# EAGLE library part NUF6400MNTBG (library Filters)
FILTER RC(PI) 100 OHM/50PF SMD Manufacturer's datasheet <https://www.onsemi.com/pub/Collateral/NUF6400MN-D.PDF>
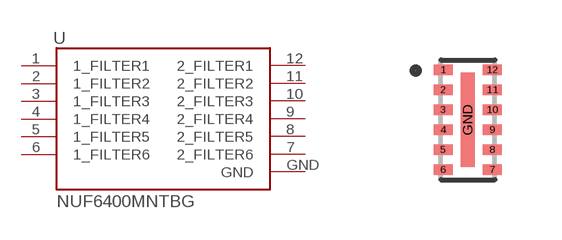
[diagram p5: symbol with the pads of DFN-12; footprint DFN-12]

Designator prefix U

## NUF6400MNTBG (CREATED_BY: PCBLayout.com; DIGIKEY_PARTNO: NUF6400MNTBGOSTR-ND; MANUFACTUERER: ON Semiconductor; MPN: NUF6400MNTBG; PACKAGE: DFN-12)  [DFN-12]
1  1_FILTER1  pas
2  1_FILTER2  pas
3  1_FILTER3  pas
4  1_FILTER4  pas
5  1_FILTER5  pas
6  1_FILTER6  pas
7  2_FILTER6  pas
8  2_FILTER5  pas
9  2_FILTER4  pas
10  2_FILTER3  pas
11  2_FILTER2  pas
12  2_FILTER1  pas
GND  GND  pas

## Footprint DFN-12 (pad centres in mm)
smd 0.479 x 0.265: 1 -0.614,1.25; 2 -0.614,0.75; 3 -0.614,0.25; 4 -0.614,-0.25; 5 -0.614,-0.75; 6 -0.614,-1.25; 7 0.614,-1.25; 8 0.614,-0.75; 9 0.614,-0.25; 10 0.614,0.25; 11 0.614,0.75; 12 0.614,1.25
smd 0.351 x 2.352: GND 0,0